# Altium integrated library 1729018.IntLib: 1 symbol
Pins are listed as number, name and electrical type; pins without a type are passive.

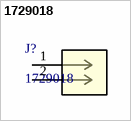
[diagram p0: symbol 1729018]

## 1729018
designator J?
PCB terminal block, nominal current: 13.5 A, nom. voltage: 400 V, pitch: 5 mm, number of positions: 2, connection method: Screw connection with tension sleeve, mounting: Wave soldering, conductor/PCB connection direction: 0 Â°, color: green; Manufacturer_Name: Phoenix Contact; Copyright: Copyright (C) 2025 Ultra Librarian. All rights reserved.; Manufacturer_Part_Number: 1729018; RefDes: RefDes; Type: Type
footprint CONN_1729018_PXC
pins: 1, 2